# Altium integrated library PT2262.IntLib: 1 symbol
Pins are listed as number, name and electrical type; pins without a type are passive.

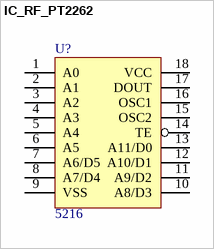
[diagram p0: symbol IC_RF_PT2262]

## IC_RF_PT2262
designator U?, comment Inflow: 5216  (hidden comment: PT2272-M4)
Remote control encoder; Rating: Rating?; Value: PT2272-M4; Package: Package?; Type: Type?
footprint DIP 18
pins: 1 A0, 2 A1, 3 A2, 4 A3, 5 A4, 6 A5, 7 A6/D5, 8 A7/D4, 9 VSS, 10 A8/D3, 11 A9/D2, 12 A10/D1, 13 A11/D0, 14 TE, 15 OSC2, 16 OSC1, 17 DOUT, 18 VCC